# EAGLE library part VS23S040D (library vlsi-web-e7)
4 Mbit SPI / 8-Bit Parallel Bus SRAM With integrated pattern generator.
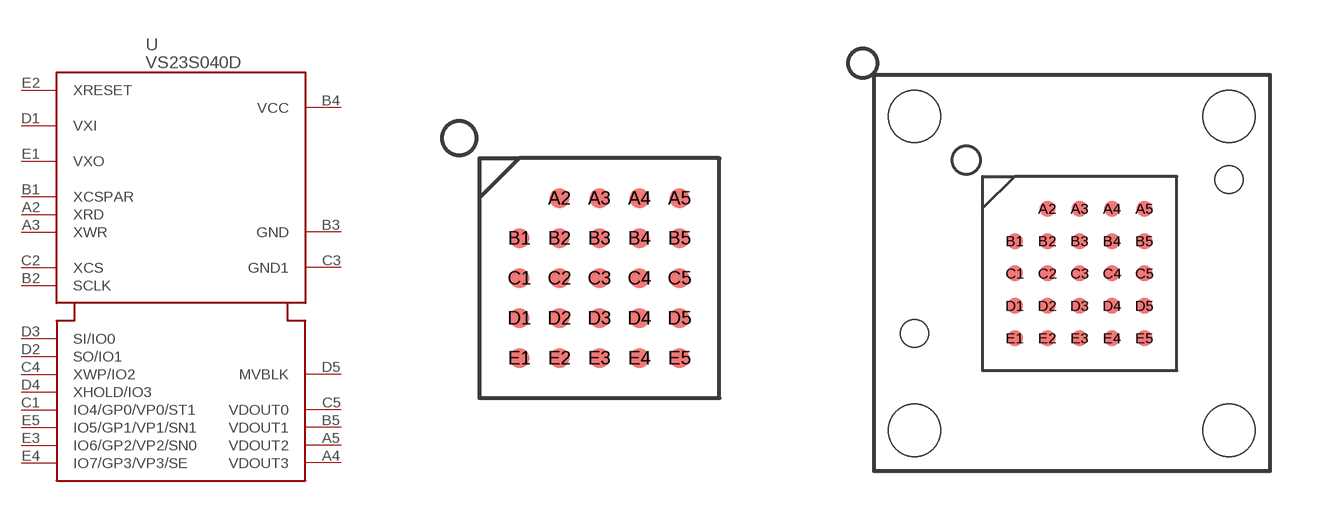
[diagram p13: symbol with the pads of BGA24_5X5; footprints BGA24_5X5, BGA24_5X5-SCKB]

Designator prefix -

## VS23S040D-B  [BGA24_5X5]
A2  XRD
A3  XWR
A4  VDOUT3
A5  VDOUT2
B1  XCSPAR
B2  SCLK
B3  GND
B4  VCC
B5  VDOUT1
C1  IO4/GP0/VP0/ST1
C2  XCS
C3  GND1
C4  XWP/IO2
C5  VDOUT0
D1  VXI
D2  SO/IO1
D3  SI/IO0
D4  XHOLD/IO3
D5  MVBLK
E1  VXO
E2  XRESET
E3  IO6/GP2/VP2/SN0
E4  IO7/GP3/VP3/SE
E5  IO5/GP1/VP1/SN1

## VS23S040DX  [BGA24_5X5-SCKB]
Pads as for BGA24_5X5

## Footprint BGA24_5X5 (pad centres in mm)
smd 0.5 x 0.5: A2 1,0; A3 2,0; A4 3,0; A5 4,0; B1 0,-1; B2 1,-1; B3 2,-1; B4 3,-1; B5 4,-1; C1 0,-2; C2 1,-2; C3 2,-2; C4 3,-2; C5 4,-2; D1 0,-3; D2 1,-3; D3 2,-3; D4 3,-3; D5 4,-3; E1 0,-4; E2 1,-4; E3 2,-4; E4 3,-4; E5 4,-4

## Footprint BGA24_5X5-SCKB (pad centres in mm)
BGA 5x5mm 1mm pitch Experimental BGA socket footprint for QFN32 socket. Use with caution.
smd 0.5 x 0.5: A2 -1,2; A3 0,2; A4 1,2; A5 2,2; B1 -2,1; B2 -1,1; B3 0,1; B4 1,1; B5 2,1; C1 -2,0; C2 -1,0; C3 0,0; C4 1,0; C5 2,0; D1 -2,-1; D2 -1,-1; D3 0,-1; D4 1,-1; D5 2,-1; E1 -2,-2; E2 -1,-2; E3 0,-2; E4 1,-2; E5 2,-2
hole 1.61 at 4.605,-4.85
hole 1.61 at -5.1,-4.85
hole 1.61 at -5.1,4.855
hole 1.61 at 4.605,4.855
hole 0.85 at -5.1,-1.85
hole 0.85 at 4.605,2.895